# EAGLE library part TLC59211IN (library TLC59211IN)
8-Bit DMOS Sink Driver Source: Datasheet <http://www.ti.com/lit/gpn/tlc59211>
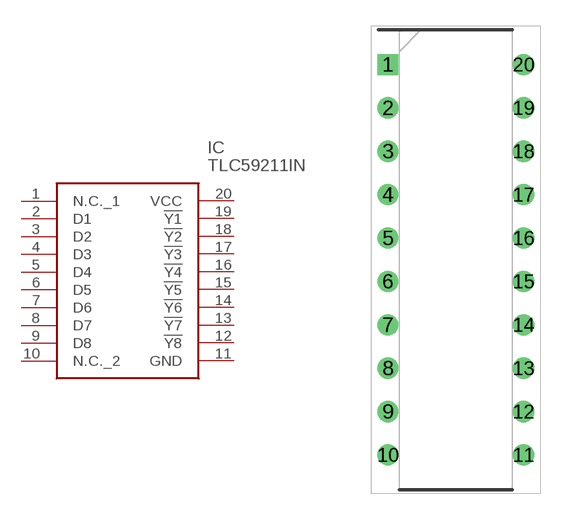
[diagram p0: symbol with the pads of DIP794W53P254L2540H508Q20N; footprint DIP794W53P254L2540H508Q20N]

Designator prefix IC

## TLC59211IN (Description: 8-Bit DMOS Sink Driver; Height: 5.08mm; Manufacturer_Name: Texas Instruments; Manufacturer_Part_Number: TLC59211IN; Mouser_Part_Number: 595-TLC59211IN; Mouser_Price-Stock: https://www.mouser.com/Search/Refine.aspx?Keyword=595-TLC59211IN)  [DIP794W53P254L2540H508Q20N]
1  N.C._1
2  D1
3  D2
4  D3
5  D4
6  D5
7  D6
8  D7
9  D8
10  N.C._2
11  GND
12  !Y8
13  !Y7
14  !Y6
15  !Y5
16  !Y4
17  !Y3
18  !Y2
19  !Y1
20  VCC

## Footprint DIP794W53P254L2540H508Q20N (pad centres in mm)
TLC59211IN
drill 0.73 pad 1.13 square: 1 -3.97,11.43
drill 0.73 pad 1.13: 2 -3.97,8.89; 3 -3.97,6.35; 4 -3.97,3.81; 5 -3.97,1.27; 6 -3.97,-1.27; 7 -3.97,-3.81; 8 -3.97,-6.35; 9 -3.97,-8.89; 10 -3.97,-11.43; 11 3.97,-11.43; 12 3.97,-8.89; 13 3.97,-6.35; 14 3.97,-3.81; 15 3.97,-1.27; 16 3.97,1.27; 17 3.97,3.81; 18 3.97,6.35; 19 3.97,8.89; 20 3.97,11.43